# Altium footprint library 691 241 710 0xx.PcbLib: 11 footprints
Each footprint in its own frame and in the unit in brackets; x right, y up, seen from the top. Pads: shape width x height; smd on the part's side, far side on the other; paste and mask are expansions set on the pad; w line width, h text height; cw(c..) or ccw(c..) is an arc to the next point about the centre after c.
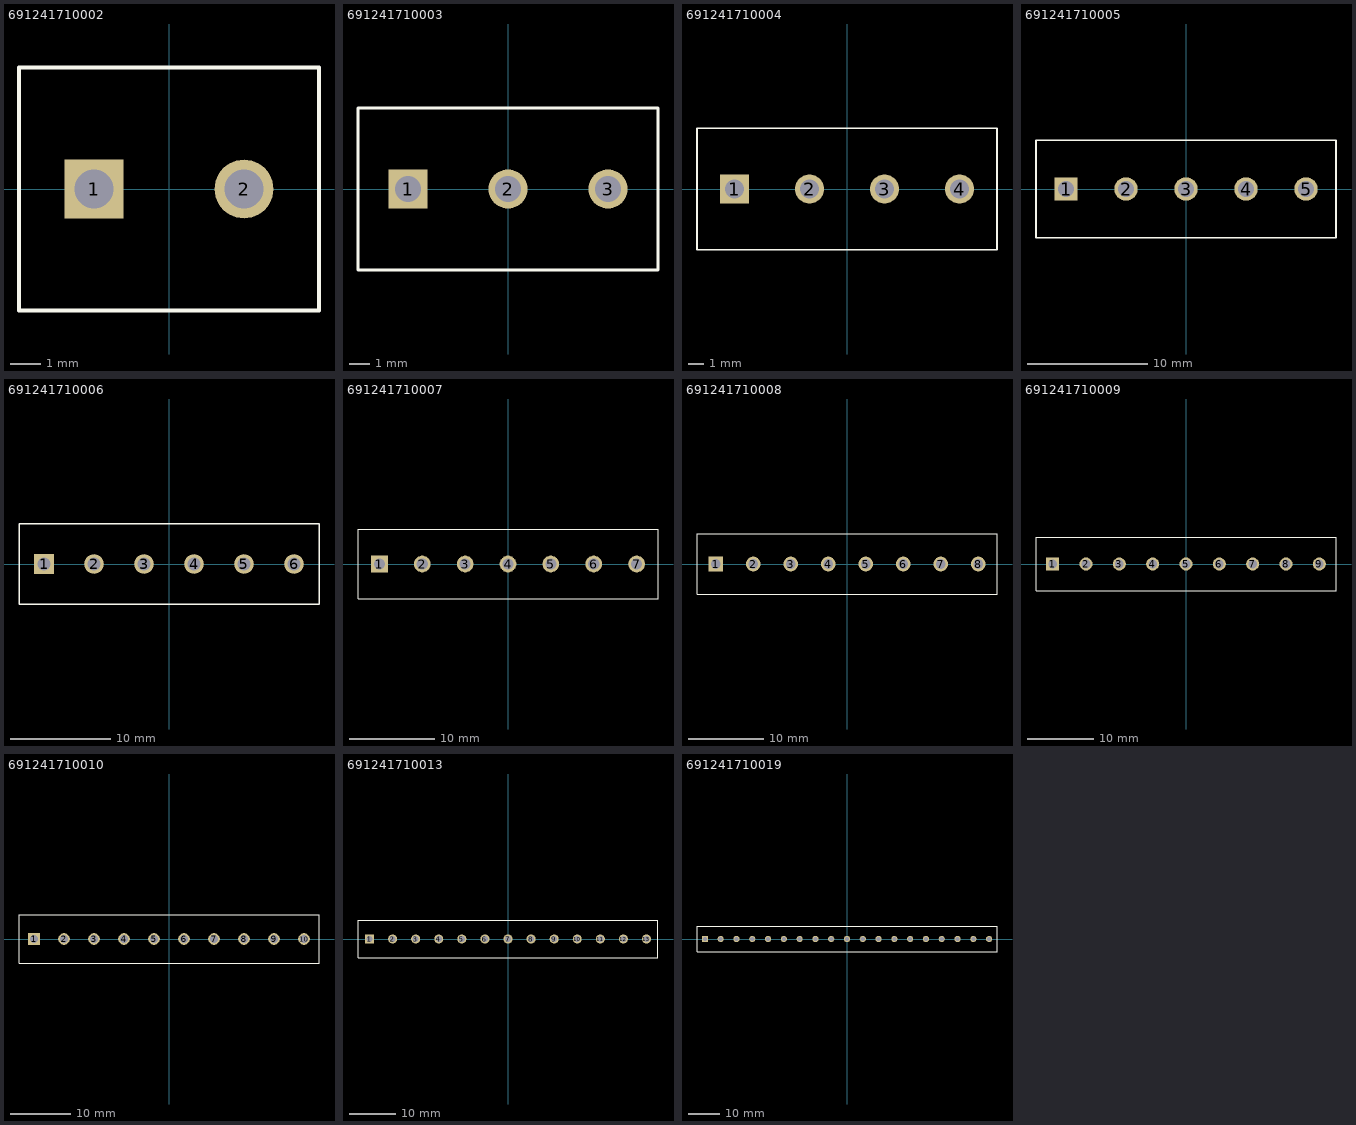
[diagram p0: the footprints below, top view; thin cyan lines are the x and y axes]

## 691241710002 [mm] "Serie 2417 - 5.00 mm _ 2 pins"
height 10
pads (2):
  rect 1.95x1.95 hole 1.3: 1(-2.5,0)
  round 1.95 hole 1.3: 2(2.5,0)
Top Overlay:
  lines w0.127: -5,-4.05 5,-4.05 5,4.05 -5,4.05 -5,-4.05
3D body: height 10.1, standoff -3.4, extent -5,-4.1 5,4

## 691241710003 [mm] "Serie 2417 - 5.00 mm _ 3 pins"
height 10
pads (3):
  rect 1.95x1.95 hole 1.3: 1(-5,0)
  round 1.95 hole 1.3: 2(0,0) 3(5,0)
Top Overlay:
  lines w0.127: -7.5,-4.05 7.5,-4.05 7.5,4.05 -7.5,4.05 -7.5,-4.05
3D body: height 10.1, standoff -3.4, extent -7.5,-4.05 7.5,4.05

## 691241710004 [mm] "Serie 2417 - 5.00 mm _ 4 pins"
height 10
pads (4):
  rect 1.95x1.95 hole 1.3: 1(-7.5,0)
  round 1.95 hole 1.3: 2(-2.5,0) 3(2.5,0) 4(7.5,0)
Top Overlay:
  lines w0.127: -10,-4.05 10,-4.05 10,4.05 -10,4.05 -10,-4.05
3D body: height 10.1, standoff -3.4, extent -10,-4.05 10,4.05

## 691241710005 [mm] "Serie 2417 - 5.00 mm _ 5 pins"
height 10
pads (5):
  rect 1.95x1.95 hole 1.3: 1(-10,0)
  round 1.95 hole 1.3: 2(-5,0) 3(0,0) 4(5,0) 5(10,0)
Top Overlay:
  lines w0.127: -12.5,-4.05 12.5,-4.05 12.5,4.05 -12.5,4.05 -12.5,-4.05
3D body: height 10.1, standoff -3.4, extent -12.5,-4.05 12.5,4.05

## 691241710006 [mm] "Serie 2417 - 5.00 mm _ 6 pins"
height 10
pads (6):
  rect 1.95x1.95 hole 1.3: 1(-12.5,0)
  round 1.95 hole 1.3: 2(-7.5,0) 3(-2.5,0) 4(2.5,0) 5(7.5,0) 6(12.5,0)
Top Overlay:
  lines w0.127: -15,-4.05 -15,4.05 15,4.05 15,-4.05 -15,-4.05
3D body: height 10.1, standoff -3.4, extent -15,-4.05 15,4.05

## 691241710007 [mm] "Serie 2417 - 5.00 mm _ 7 pins"
height 10
pads (7):
  rect 1.95x1.95 hole 1.3: 1(-15,0)
  round 1.95 hole 1.3: 2(-10,0) 3(-5,0) 4(0,0) 5(5,0) 6(10,0) 7(15,0)
Top Overlay:
  lines w0.127: -17.5,-4.05 -17.5,4.05 17.5,4.05 17.5,-4.05 -17.5,-4.05
3D body: height 10.1, standoff -3.4, extent -17.5,-4.05 17.5,4.05

## 691241710008 [mm] "Serie 2417 - 5.00 mm _ 8 pins"
height 10
pads (8):
  rect 1.95x1.95 hole 1.3: 1(-17.5,0)
  round 1.95 hole 1.3: 2(-12.5,0) 3(-7.5,0) 4(-2.5,0) 5(2.5,0) 6(7.5,0) 7(12.5,0) 8(17.5,0)
Top Overlay:
  lines w0.127: -20,-4.05 20,-4.05 20,4.05 -20,4.05 -20,-4.05

## 691241710009 [mm] "Serie 2417 - 5.00 mm _ 9 pins"
height 10
pads (9):
  rect 1.95x1.95 hole 1.3: 1(-20,0)
  round 1.95 hole 1.3: 2(-15,0) 3(-10,0) 4(-5,0) 5(0,0) 6(5,0) 7(10,0) 8(15,0) 9(20,0)
Top Overlay:
  lines w0.127: -22.5,-4.05 -22.5,4.05 22.5,4.05 22.5,-4.05 -22.5,-4.05
3D body: height 10.1, standoff -3.4, extent -22.5,-4.05 22.5,4.05

## 691241710010 [mm] "Serie 2417 - 5.00 mm _ 10 pins"
height 10
pads (10):
  rect 1.95x1.95 hole 1.3: 1(-22.5,0)
  round 1.95 hole 1.3: 2(-17.5,0) 3(-12.5,0) 4(-7.5,0) 5(-2.5,0) 6(2.5,0) 7(7.5,0) 8(12.5,0) 9(17.5,0) 10(22.5,0)
Top Overlay:
  lines w0.127: -25,-4.05 -25,4.05 25,4.05 25,-4.05 -25,-4.05
3D body: height 10.1, standoff -3.4, extent -25,-4.05 25,4.05

## 691241710013 [mm] "Serie 2417 - 5.00 mm _ 13 pins"
height 10
pads (13):
  rect 1.95x1.95 hole 1.3: 1(-30,0)
  round 1.95 hole 1.3: 2(-25,0) 3(-20,0) 4(-15,0) 5(-10,0) 6(-5,0) 7(0,0) 8(5,0) 9(10,0) 10(15,0) 11(20,0) 12(25,0) 13(30,0)
Top Overlay:
  lines w0.127: -32.5,-4.05 -32.5,4.05 32.5,4.05 32.5,-4.05 -32.5,-4.05
3D body: height 10.1, standoff -3.4, extent -32.5,-4.05 32.5,4.05

## 691241710019 [mm] "Serie 2417 - 5.00 mm _ 19 pins"
height 10
pads (19):
  rect 1.95x1.95 hole 1.3: 1(-45,0)
  round 1.95 hole 1.3: 2(-40,0) 3(-35,0) 4(-30,0) 5(-25,0) 6(-20,0) 7(-15,0) 8(-10,0) 9(-5,0) 10(0,0) 11(5,0) 12(10,0) 13(15,0) 14(20,0) 15(25,0) 16(30,0) 17(35,0) 18(40,0) 19(45,0)
Top Overlay:
  lines w0.127: -47.5,-4.05 -47.5,4.05 47.5,4.05 47.5,-4.05 -47.5,-4.05
3D body: height 10.1, standoff -3.4, extent -47.5,-4.05 47.5,4.05